# EAGLE library part INA296A3IDDFR (library INA296A3IDDFR)
Current Sense Amplifiers -5-V to 110-V, bidirectional, 1.1-MHz 8-V/us ultraprecise current sense amplifier 8-SOT-23-THIN -40 to 125 Source: Datasheet <https://www.ti.com/lit/ds/symlink/ina296a.pdf?ts=1703168725565&ref_url=https%3A%2F%2Fwww.ti.com%2Fsitesearch%2Fen-us%2Fdocs%2Funiversalsearch.tsp%3FlangPref%3Den-US%26searchTerm%3DINA296A1IDR%26nr%3D3>
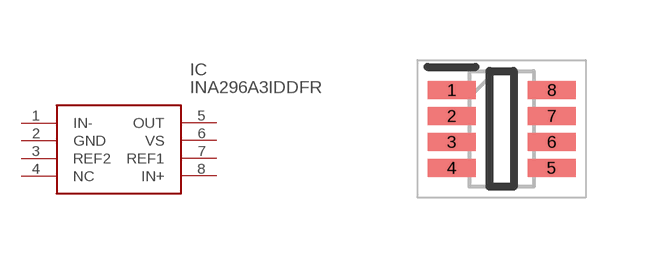
[diagram p0: symbol with the pads of SOT65P280X110-8N; footprint SOT65P280X110-8N]

Designator prefix IC

## INA296A3IDDFR (Description: Current Sense Amplifiers -5-V to 110-V, bidirectional, 1.1-MHz 8-V/us ultraprecise current sense amplifier 8-SOT-23-THIN -40 to 125; Height: 1.1mm; Manufacturer_Name: Texas Instruments; Manufacturer_Part_Number: INA296A3IDDFR; Mouser_Part_Number: 595-INA296A3IDDFR; Mouser_Price-Stock: https://www.mouser.co.uk/ProductDetail/Texas-Instruments/INA296A3IDDFR?qs=IPgv5n7u5QZT1udeg9AMMQ%3D%3D)  [SOT65P280X110-8N]
1  IN-
2  GND
3  REF2
4  NC  nc
5  OUT
6  VS
7  REF1
8  IN+

## Footprint SOT65P280X110-8N (pad centres in mm)
DDF0008A_2024
smd 1.2 x 0.45: 1 -1.25,0.975; 2 -1.25,0.325; 3 -1.25,-0.325; 4 -1.25,-0.975; 5 1.25,-0.975; 6 1.25,-0.325; 7 1.25,0.325; 8 1.25,0.975